# EAGLE library part MAX2116 (library mita-akiba)
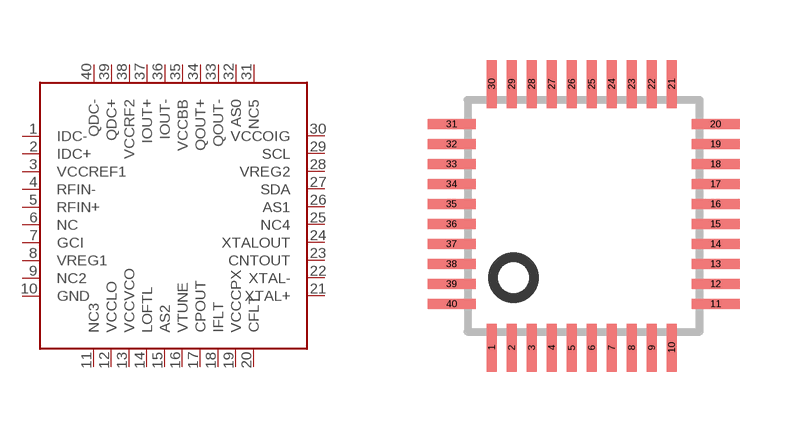
[diagram p30: symbol with the pads of QFN-6X6X0.90-40; footprint QFN-6X6X0.90-40]

Designator prefix -

## MAX2116  [QFN-6X6X0.90-40]
1  IDC-
2  IDC+
3  VCCREF1  pwr
4  RFIN-
5  RFIN+
6  NC
7  GCI
8  VREG1
9  NC2
10  GND
11  NC3
12  VCCLO  pwr
13  VCCVCO
14  LOFTL
15  AS2
16  VTUNE
17  CPOUT
18  IFLT
19  VCCCPX  pwr
20  CFLT
21  XTAL+
22  XTAL-
23  CNTOUT
24  XTALOUT
25  NC4
26  AS1
27  SDA
28  VREG2
29  SCL
30  VCCOIG  pwr
31  NC5
32  AS0
33  QOUT-
34  QOUT+
35  VCCBB  pwr
36  IOUT-
37  IOUT+
38  VCCRF2  pwr
39  QDC+
40  QDC-

## Footprint QFN-6X6X0.90-40 (pad centres in mm)
QFN40 quad flat pack non lead type
smd 0.25 x 1.2: 1 -2.3,-3.3; 2 -1.8,-3.3; 3 -1.3,-3.3; 4 -0.8,-3.3; 5 -0.3,-3.3; 6 0.2,-3.3; 7 0.7,-3.3; 8 1.2,-3.3; 9 1.7,-3.3; 10 2.2,-3.3; 21 2.2,3.3; 22 1.7,3.3; 23 1.2,3.3; 24 0.7,3.3; 25 0.2,3.3; 26 -0.3,3.3; 27 -0.8,3.3; 28 -1.3,3.3; 29 -1.8,3.3; 30 -2.3,3.3
smd 1.2 x 0.25: 11 3.3,-2.2; 12 3.3,-1.7; 13 3.3,-1.2; 14 3.3,-0.7; 15 3.3,-0.2; 16 3.3,0.3; 17 3.3,0.8; 18 3.3,1.3; 19 3.3,1.8; 20 3.3,2.3; 31 -3.3,2.3; 32 -3.3,1.8; 33 -3.3,1.3; 34 -3.3,0.8; 35 -3.3,0.3; 36 -3.3,-0.2; 37 -3.3,-0.7; 38 -3.3,-1.2; 39 -3.3,-1.7; 40 -3.3,-2.2